# Altium footprint library encoders.PcbLib: 1 footprints
Each footprint in its own frame and in the unit in brackets; x right, y up, seen from the top. Pads: shape width x height; smd on the part's side, far side on the other; paste and mask are expansions set on the pad; w line width, h text height; cw(c..) or ccw(c..) is an arc to the next point about the centre after c.
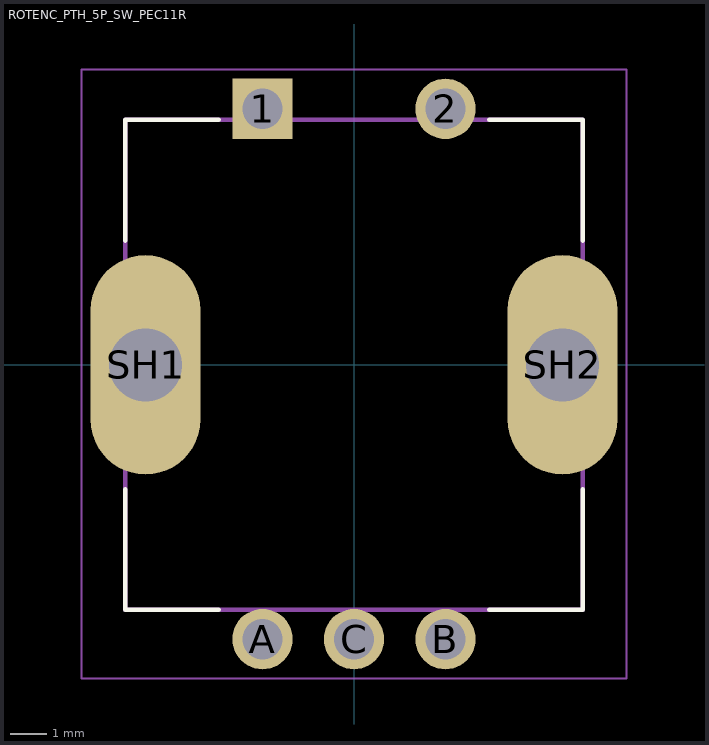
[diagram p0: the footprint, top view; thin cyan lines are the x and y axes]

## ROTENC_PTH_5P_SW_PEC11R [mm]
pads (7):
  rect 1.65x1.65 / inner round 1.65 / far side rect 1.65x1.65 hole 1.1 mask+0.102: 1(-2.5,7)
  round 1.65 hole 1.1 mask+0.102: 2(2.5,7) A(-2.5,-7.5) B(2.5,-7.5) C(0,-7.5)
  oval 3x6 hole 2 square mask+0.102: SH1(-5.7,0) SH2(5.7,0)
Top Overlay:
  lines w0.127: -6.25,-3.4 -6.25,-6.7 -3.7,-6.7 ; -6.25,3.4 -6.25,6.7 -3.7,6.7 ; 3.7,-6.7 6.25,-6.7 6.25,-3.4 ; 3.7,6.7 6.25,6.7 6.25,3.4
Mechanical 13:
  lines w0.127: -6.25,-6.7 -6.25,6.7 6.25,6.7 6.25,-6.7 -6.25,-6.7
Mechanical 15:
  lines w0.05: -7.45,-8.575 7.45,-8.575 7.45,8.075 -7.45,8.075 -7.45,-8.575
3D body "pec11r-4220f-s0024.stp": height 26.18, standoff -4.02, extent -6.998,-7.7 6.998,7.2